# EAGLE library part 6180XX231421_618015231421 (library WR-DSUB)
WR-DSUB 10.30 mm Male Angled PCB Connector w. Hex Screw Kind Properties Quality Class:3 as per CECC 75 301-802 Gender:Male Type:Angled Insulator Material:PBT Insulator Flammability Rating:UL94 V-0 Color:Black Contact Material:Copper Alloy Contact Plating:Selective Gold Contact Type:Stamped Shielding Material:Steel Shielding Plating:Nickel General Information Operating Temperature:-55 up to +105 °C Compliance:RoHS Electrical Properties IR1:3 A Working Voltage:125 V (AC) Withstanding Voltage:1000 V (AC) Contact Resistance:30 mΩ <https://www.we-online.com/catalog/media/o60849v209%20Family_I-O_DSUB_PCB_Male_w-screw_6180xx231421_pf2.jpg> Details see: https://www.we-online.com/en/components/products/DSUB_MALE_ANGLED_PCB_CONNECTOR_W_HEX_SCREW_10_30MM_6180XX231421 Updated by Ella Wu 2023-03-21 2023 (C) Würth Elektronik
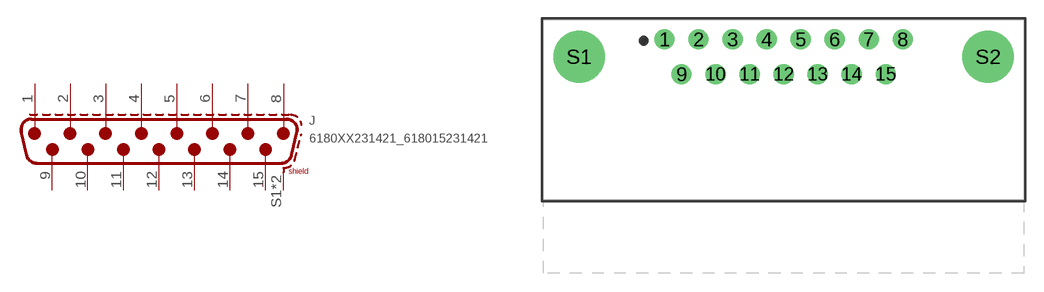
[diagram p58: symbol with the pads of 618015231421; footprint 618015231421]

Designator prefix J

## 6180XX231421_618015231421 (DATASHEET-URL: https://www.we-online.com/redexpert/spec/618015231421?ae; GENDER: Male; OPERATING-TEMPERATURE: -55 °C up to +105 °C; PART-NUMBER: 618015231421; PINS: 15; TYPE: Angled; VALUE: 618015231421; WORKING-VOLTAGE: 125VAC)  [618015231421]
1  1
2  2
3  3
4  4
5  5
6  6
7  7
8  8
9  9
10  10
11  11
12  12
13  13
14  14
15  15
S1  SHIELD
S2  SHIELD

## Footprint 618015231421 (pad centres in mm)
WR-DSUB 10.3mm Male Angled PCB Connector with Hex Screw, 15 Pins
drill 1.09: 1 -9.695,8.715; 2 -6.925,8.715; 3 -4.155,8.715; 4 -1.385,8.715; 5 1.385,8.715; 6 4.155,8.715; 7 6.925,8.715; 8 9.695,8.715; 9 -8.31,5.875; 10 -5.54,5.875; 11 -2.77,5.875; 12 0,5.875; 13 2.77,5.875; 14 5.54,5.875; 15 8.31,5.875
drill 3.2: S1 -16.66,7.295; S2 16.66,7.295